# Altium schematic symbol library Trans_Infineon_Technologies_IRLR2905TRPBF_eec.SchLib: 1 symbol
Pins are listed as number, name and electrical type; pins without a type are passive.

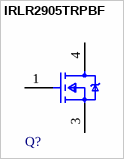
[diagram p0: symbol IRLR2905TRPBF]

## IRLR2905TRPBF
designator Q?  (value not drawn)
pins: 1 GATE, 3 SOURCE, 4 DRAIN